# EAGLE library part DIP-08 (library SparkFun-Retired)
DIP Switch 8 Position
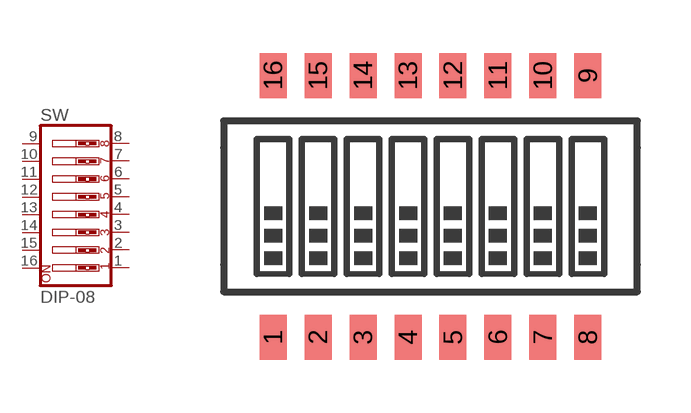
[diagram p81: symbol with the pads of DIPSWITCH-08-50MIL; footprint DIPSWITCH-08-50MIL]

Designator prefix SW

## DIP-08-SMT-HALFSIZE  [DIPSWITCH-08-50MIL]
1  1  pas
2  2  pas
3  3  pas
4  4  pas
5  5  pas
6  6  pas
7  7  pas
8  8  pas
9  9  pas
10  10  pas
11  11  pas
12  12  pas
13  13  pas
14  14  pas
15  15  pas
16  16  pas

## Footprint DIPSWITCH-08-50MIL (pad centres in mm)
DIP SWITCH Half-size SMT DIP switch, 1.27 mm / 0.05" pitch. For example the following: Omron A6H series; Datasheet <http://www.omron.com/ecb/products/pdf/en-a6h.pdf>
smd 0.762 x 1.27: 1 -4.445,-3.7; 2 -3.175,-3.7; 3 -1.905,-3.7; 4 -0.635,-3.7; 5 0.635,-3.7; 6 1.905,-3.7; 7 3.175,-3.7; 8 4.445,-3.7; 9 4.445,3.7; 10 3.175,3.7; 11 1.905,3.7; 12 0.635,3.7; 13 -0.635,3.7; 14 -1.905,3.7; 15 -3.175,3.7; 16 -4.445,3.7